# Altium integrated library Cypress USB High-Speed.IntLib: 35 symbols (part 1 of 2)
Pins are listed as number, name and electrical type; pins without a type are passive.

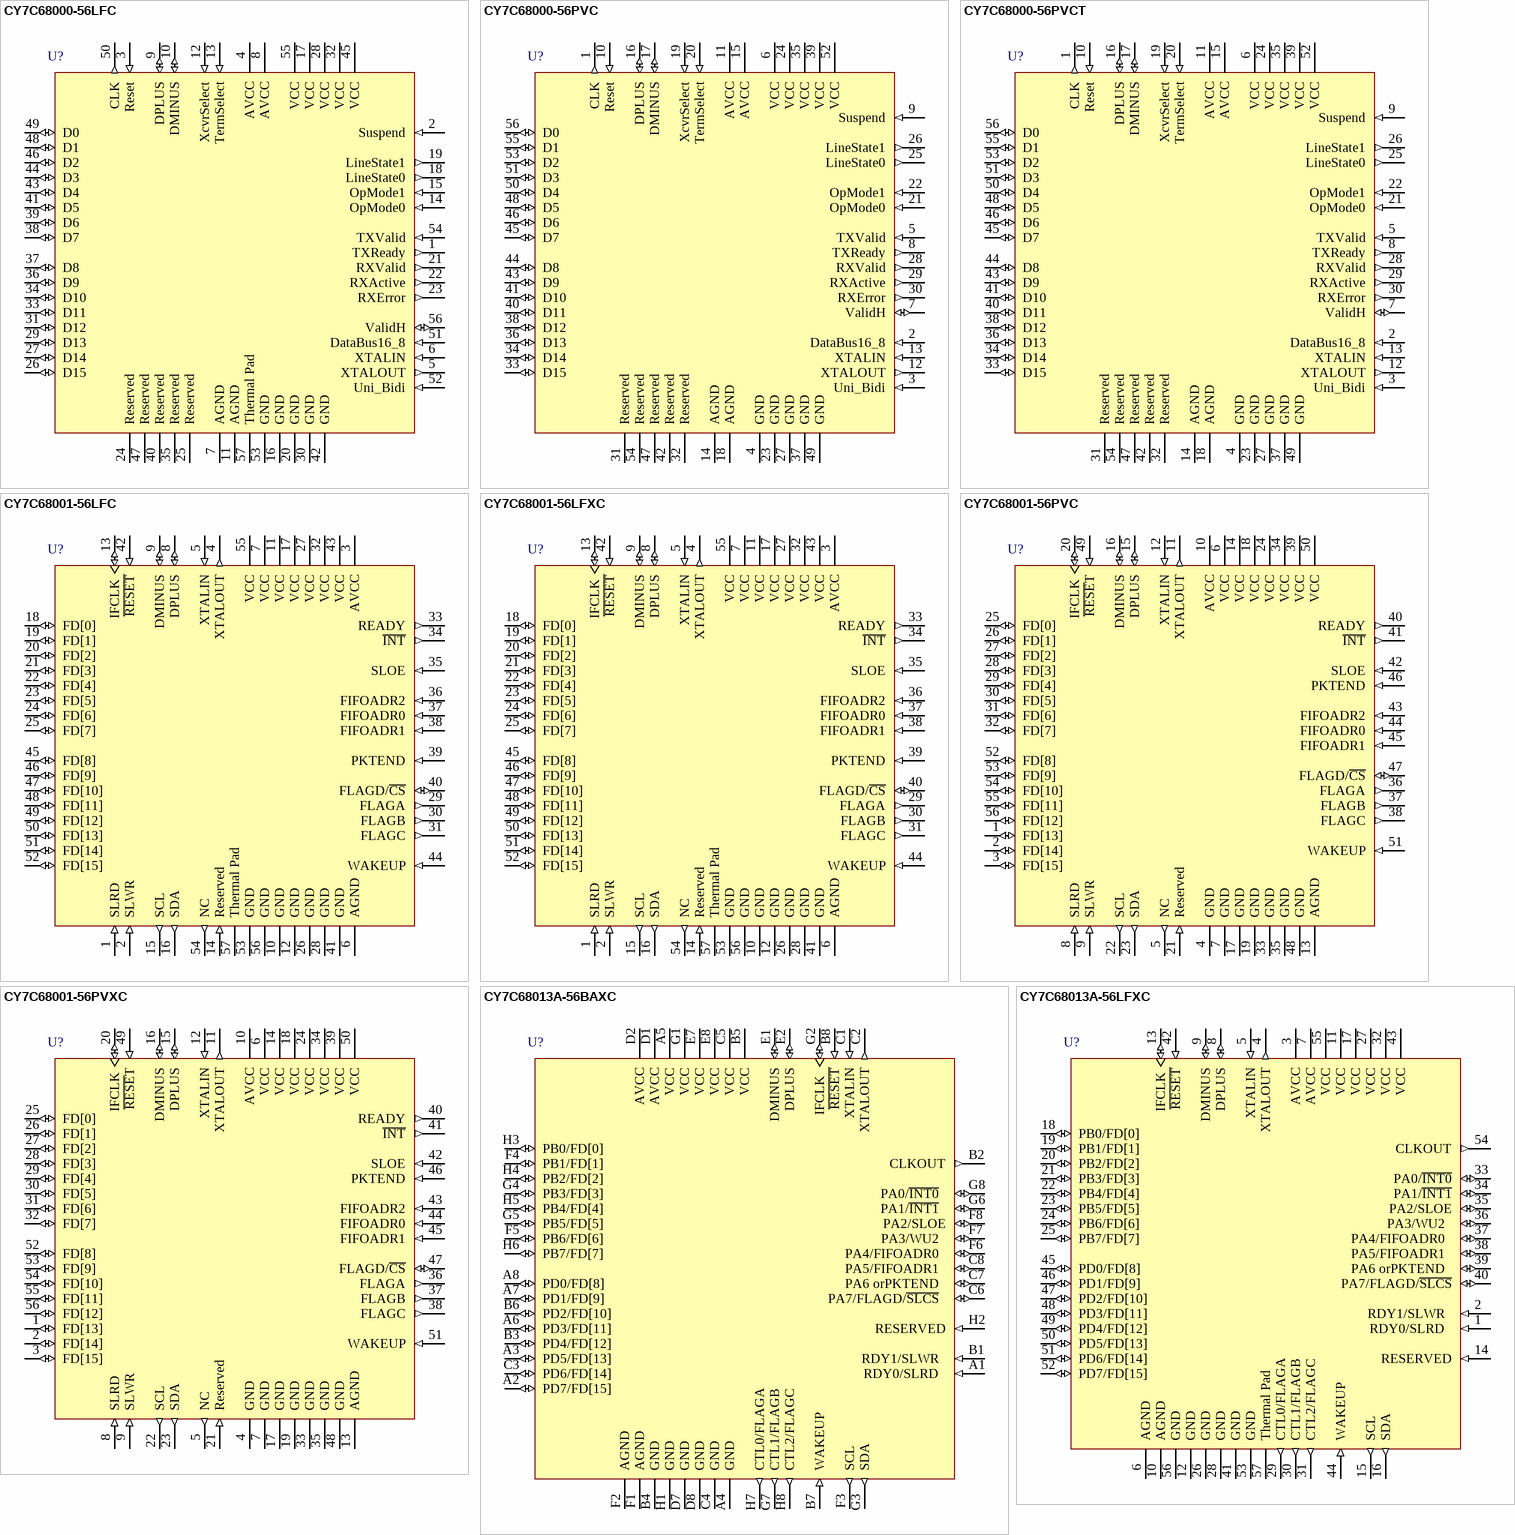
[diagram p0: symbols CY7C68000-56LFC to CY7C68013A-56LFXC]

## CY7C68000-56LFC
designator U?
TX2 USB2.0 Compliant with Transceiver Macrocell Interface Specification, 56-Pin QFN; Published: 16-Dec-2005; LatestRevisionDate: 13-Apr-2006; LatestRevisionNote: IPC-7351 Footprint Added.; DatasheetVersion: rev.G, May-2005; PackageVersion: Feb-2004; PackageReference: LS56B; Publisher: Altium Limited; PackageDescription: 56-Pin Saw Version Quad Flat No-Lead 0.5 mm Pitch; Code_JEDEC: MO-220; ComponentLink1Description: Manufacturer Link; ComponentLink1URL: http://www.cypress.com/portal/server.pt; ComponentLink2Description: Datasheet; ComponentLink2URL: http://www.cypress.com/portal/server.pt/gateway/PTARGS_0_2_1524_209_259_43/http%3B/sjapp20.mis.cypress.com%3B7001/publishedcontent/publish/design_resources/datasheets/contents/cy7c68000_5.pdf
footprint LS56B_N (QFN, 56-Leads, Body 8x8mm, Pitch 0.5mm, IPC Medium Density)
footprint LS56B_L (QFN, 56-Leads, Body 8x8mm, Pitch 0.5mm, IPC High Density)
footprint LS56B_M (QFN, 56-Leads, Body 8x8mm, Pitch 0.5mm, IPC Low Density)
pins: 1 TXReady (out), 2 Suspend (in), 3 Reset (in), 4 AVCC (power), 5 XTALOUT (out), 6 XTALIN (in), 7 AGND (power), 8 AVCC (power), 9 DPLUS (io), 10 DMINUS (io), 11 AGND (power), 12 XcvrSelect (in), 13 TermSelect (in), 14 OpMode0 (in), 15 OpMode1 (in), 16 GND (power), 17 VCC (power), 18 LineState0 (out), 19 LineState1 (out), 20 GND (power), 21 RXValid (out), 22 RXActive (out), 23 RXError (out), 24 Reserved, 25 Reserved, 26 D15 (io), 27 D14 (io), 28 VCC (power), 29 D13 (io), 30 GND (power), 31 D12 (io), 32 VCC (power), 33 D11 (io), 34 D10 (io), 35 Reserved, 36 D9 (io), 37 D8 (io), 38 D7 (io), 39 D6 (io), 40 Reserved, 41 D5 (io), 42 GND (power), 43 D4 (io), 44 D3 (io), 45 VCC (power), 46 D2 (io), 47 Reserved, 48 D1 (io), 49 D0 (io), 50 CLK (out), 51 DataBus16_8 (in), 52 Uni_Bidi (in), 53 GND (power), 54 TXValid (in), 55 VCC (power), 56 ValidH (io), 57 Thermal Pad (power)

## CY7C68000-56PVC
designator U?
TX2 USB2.0 Compliant with Transceiver Macrocell Interface Specification, 56-Pin SSOP; Published: 16-Dec-2005; DatasheetVersion: rev.G, May-2005; PackageVersion: Feb-2005; PackageReference: O56; Publisher: Altium Limited; PackageDescription: SSOP; 56 Leads; Body Width 7.5 mm; Pitch 0.635 mm; Code_JEDEC: MO-118-AB; Code_IPC: SSO56; ComponentLink1Description: Manufacturer Link; ComponentLink1URL: http://www.cypress.com/portal/server.pt; ComponentLink2Description: Datasheet; ComponentLink2URL: http://www.cypress.com/portal/server.pt/gateway/PTARGS_0_2_1524_209_259_43/http%3B/sjapp20.mis.cypress.com%3B7001/publishedcontent/publish/design_resources/datasheets/contents/cy7c68000_5.pdf
footprint O56 (SSOP; 56 Leads; Body Width 7.5 mm; Pitch 0.635 mm)
pins: 1 CLK (out), 2 DataBus16_8 (in), 3 Uni_Bidi (in), 4 GND (power), 5 TXValid (in), 6 VCC (power), 7 ValidH (io), 8 TXReady (out), 9 Suspend (in), 10 Reset (in), 11 AVCC (power), 12 XTALOUT (out), 13 XTALIN (in), 14 AGND (power), 15 AVCC (power), 16 DPLUS (io), 17 DMINUS (io), 18 AGND (power), 19 XcvrSelect (in), 20 TermSelect (in), 21 OpMode0 (in), 22 OpMode1 (in), 23 GND (power), 24 VCC (power), 25 LineState0 (out), 26 LineState1 (out), 27 GND (power), 28 RXValid (out), 29 RXActive (out), 30 RXError (out), 31 Reserved, 32 Reserved, 33 D15 (io), 34 D14 (io), 35 VCC (power), 36 D13 (io), 37 GND (power), 38 D12 (io), 39 VCC (power), 40 D11 (io), 41 D10 (io), 42 Reserved, 43 D9 (io), 44 D8 (io), 45 D7 (io), 46 D6 (io), 47 Reserved, 48 D5 (io), 49 GND (power), 50 D4 (io), 51 D3 (io), 52 VCC (power), 53 D2 (io), 54 Reserved, 55 D1 (io), 56 D0 (io)

## CY7C68000-56PVCT
designator U?
TX2 USB2.0 Compliant with Transceiver Macrocell Interface Specification, 56-Pin SSOP; Published: 16-Dec-2005; DatasheetVersion: rev.G, May-2005; PackageVersion: Feb-2005; PackageReference: O56; Publisher: Altium Limited; PackageDescription: SSOP; 56 Leads; Body Width 7.5 mm; Pitch 0.635 mm; Code_JEDEC: MO-118-AB; Code_IPC: SSO56; ComponentLink1Description: Manufacturer Link; ComponentLink1URL: http://www.cypress.com/portal/server.pt; ComponentLink2Description: Datasheet; ComponentLink2URL: http://www.cypress.com/portal/server.pt/gateway/PTARGS_0_2_1524_209_259_43/http%3B/sjapp20.mis.cypress.com%3B7001/publishedcontent/publish/design_resources/datasheets/contents/cy7c68000_5.pdf
footprint O56 (SSOP; 56 Leads; Body Width 7.5 mm; Pitch 0.635 mm)
pins: 1 CLK (out), 2 DataBus16_8 (in), 3 Uni_Bidi (in), 4 GND (power), 5 TXValid (in), 6 VCC (power), 7 ValidH (io), 8 TXReady (out), 9 Suspend (in), 10 Reset (in), 11 AVCC (power), 12 XTALOUT (out), 13 XTALIN (in), 14 AGND (power), 15 AVCC (power), 16 DPLUS (io), 17 DMINUS (io), 18 AGND (power), 19 XcvrSelect (in), 20 TermSelect (in), 21 OpMode0 (in), 22 OpMode1 (in), 23 GND (power), 24 VCC (power), 25 LineState0 (out), 26 LineState1 (out), 27 GND (power), 28 RXValid (out), 29 RXActive (out), 30 RXError (out), 31 Reserved, 32 Reserved, 33 D15 (io), 34 D14 (io), 35 VCC (power), 36 D13 (io), 37 GND (power), 38 D12 (io), 39 VCC (power), 40 D11 (io), 41 D10 (io), 42 Reserved, 43 D9 (io), 44 D8 (io), 45 D7 (io), 46 D6 (io), 47 Reserved, 48 D5 (io), 49 GND (power), 50 D4 (io), 51 D3 (io), 52 VCC (power), 53 D2 (io), 54 Reserved, 55 D1 (io), 56 D0 (io)

## CY7C68001-56LFC
designator U?
EZ-USB SX2 High-Speed USB Interface Device, 56-Pin QFN; Published: 16-Dec-2005; LatestRevisionDate: 13-Apr-2006; LatestRevisionNote: IPC-7351 Footprint Added.; DatasheetVersion: rev.G, Aug-2005; PackageVersion: May-2003; PackageReference: LF56A; Publisher: Altium Limited; PackageDescription: 56-Pin Punch Version Quad Flat No-Lead 0.5 mm Pitch; Code_JEDEC: MO-220; ComponentLink1Description: Manufacturer Link; ComponentLink1URL: http://www.cypress.com/portal/server.pt; ComponentLink2Description: Datasheet; ComponentLink2URL: http://www.cypress.com/portal/server.pt/gateway/PTARGS_0_2_1524_209_259_43/http%3B/sjapp20.mis.cypress.com%3B7001/publishedcontent/publish/design_resources/datasheets/contents/cy7c68001_5.pdf
footprint LF56A_N (QFN, 56-Leads, Body 8x8mm, Pitch 0.5mm, IPC Medium Density)
footprint LF56A_L (QFN, 56-Leads, Body 8x8mm, Pitch 0.5mm, IPC High Density)
footprint LF56A_M (QFN, 56-Leads, Body 8x8mm, Pitch 0.5mm, IPC Low Density)
pins: 1 SLRD (in), 2 SLWR (in), 3 AVCC (power), 4 XTALOUT (out), 5 XTALIN (in), 6 AGND (power), 7 VCC (power), 8 DPLUS (io), 9 DMINUS (io), 10 GND (power), 11 VCC (power), 12 GND (power), 13 IFCLK (io), 14 Reserved (in), 15 SCL (out), 16 SDA (out), 17 VCC (power), 18 FD[0] (io), 19 FD[1] (io), 20 FD[2] (io), 21 FD[3] (io), 22 FD[4] (io), 23 FD[5] (io), 24 FD[6] (io), 25 FD[7] (io), 26 GND (power), 27 VCC (power), 28 GND (power), 29 FLAGA (out), 30 FLAGB (out), 31 FLAGC (out), 32 VCC (power), 33 READY (out), 34 ~{INT} (out), 35 SLOE (in), 36 FIFOADR2 (in), 37 FIFOADR0 (in), 38 FIFOADR1 (in), 39 PKTEND (in), 40 FLAGD/~{CS} (io), 41 GND (power), 42 ~{RESET} (in), 43 VCC (power), 44 WAKEUP (in), 45 FD[8] (io), 46 FD[9] (io), 47 FD[10] (io), 48 FD[11] (io), 49 FD[12] (io), 50 FD[13] (io), 51 FD[14] (io), 52 FD[15] (io), 53 GND (power), 54 NC (out), 55 VCC (power), 56 GND (power), 57 Thermal Pad (power)

## CY7C68001-56LFXC
designator U?
EZ-USB SX2 High-Speed USB Interface Device, 56-Pin QFN, Pb-Free; Published: 16-Dec-2005; LatestRevisionDate: 13-Apr-2006; LatestRevisionNote: IPC-7351 Footprint Added.; DatasheetVersion: rev.G, Aug-2005; PackageVersion: May-2003; PackageReference: LF56A; Publisher: Altium Limited; PackageDescription: 56-Pin Punch Version Quad Flat No-Lead 0.5 mm Pitch; Code_JEDEC: MO-220; ComponentLink1Description: Manufacturer Link; ComponentLink1URL: http://www.cypress.com/portal/server.pt; ComponentLink2Description: Datasheet; ComponentLink2URL: http://www.cypress.com/portal/server.pt/gateway/PTARGS_0_2_1524_209_259_43/http%3B/sjapp20.mis.cypress.com%3B7001/publishedcontent/publish/design_resources/datasheets/contents/cy7c68001_5.pdf
footprint LF56A_N (QFN, 56-Leads, Body 8x8mm, Pitch 0.5mm, IPC Medium Density)
footprint LF56A_L (QFN, 56-Leads, Body 8x8mm, Pitch 0.5mm, IPC High Density)
footprint LF56A_M (QFN, 56-Leads, Body 8x8mm, Pitch 0.5mm, IPC Low Density)
pins: 1 SLRD (in), 2 SLWR (in), 3 AVCC (power), 4 XTALOUT (out), 5 XTALIN (in), 6 AGND (power), 7 VCC (power), 8 DPLUS (io), 9 DMINUS (io), 10 GND (power), 11 VCC (power), 12 GND (power), 13 IFCLK (io), 14 Reserved (in), 15 SCL (out), 16 SDA (out), 17 VCC (power), 18 FD[0] (io), 19 FD[1] (io), 20 FD[2] (io), 21 FD[3] (io), 22 FD[4] (io), 23 FD[5] (io), 24 FD[6] (io), 25 FD[7] (io), 26 GND (power), 27 VCC (power), 28 GND (power), 29 FLAGA (out), 30 FLAGB (out), 31 FLAGC (out), 32 VCC (power), 33 READY (out), 34 ~{INT} (out), 35 SLOE (in), 36 FIFOADR2 (in), 37 FIFOADR0 (in), 38 FIFOADR1 (in), 39 PKTEND (in), 40 FLAGD/~{CS} (io), 41 GND (power), 42 ~{RESET} (in), 43 VCC (power), 44 WAKEUP (in), 45 FD[8] (io), 46 FD[9] (io), 47 FD[10] (io), 48 FD[11] (io), 49 FD[12] (io), 50 FD[13] (io), 51 FD[14] (io), 52 FD[15] (io), 53 GND (power), 54 NC (out), 55 VCC (power), 56 GND (power), 57 Thermal Pad (power)

## CY7C68001-56PVC
designator U?
EZ-USB SX2 High-Speed USB Interface Device, 56-Pin SSOP; Published: 16-Dec-2005; DatasheetVersion: rev.G, Aug-2005; PackageVersion: Feb-2005; PackageReference: O56; Publisher: Altium Limited; PackageDescription: SSOP; 56 Leads; Body Width 7.5 mm; Pitch 0.635 mm; Code_JEDEC: MO-118-AB; Code_IPC: SSO56; ComponentLink1Description: Manufacturer Link; ComponentLink1URL: http://www.cypress.com/portal/server.pt; ComponentLink2Description: Datasheet; ComponentLink2URL: http://www.cypress.com/portal/server.pt/gateway/PTARGS_0_2_1524_209_259_43/http%3B/sjapp20.mis.cypress.com%3B7001/publishedcontent/publish/design_resources/datasheets/contents/cy7c68001_5.pdf
footprint O56 (SSOP; 56 Leads; Body Width 7.5 mm; Pitch 0.635 mm)
pins: 1 FD[13] (io), 2 FD[14] (io), 3 FD[15] (io), 4 GND (power), 5 NC (out), 6 VCC (power), 7 GND (power), 8 SLRD (in), 9 SLWR (in), 10 AVCC (power), 11 XTALOUT (out), 12 XTALIN (in), 13 AGND (power), 14 VCC (power), 15 DPLUS (io), 16 DMINUS (io), 17 GND (power), 18 VCC (power), 19 GND (power), 20 IFCLK (io), 21 Reserved (in), 22 SCL (out), 23 SDA (out), 24 VCC (power), 25 FD[0] (io), 26 FD[1] (io), 27 FD[2] (io), 28 FD[3] (io), 29 FD[4] (io), 30 FD[5] (io), 31 FD[6] (io), 32 FD[7] (io), 33 GND (power), 34 VCC (power), 35 GND (power), 36 FLAGA (out), 37 FLAGB (out), 38 FLAGC (out), 39 VCC (power), 40 READY (out), 41 ~{INT} (out), 42 SLOE (in), 43 FIFOADR2 (in), 44 FIFOADR0 (in), 45 FIFOADR1 (in), 46 PKTEND (in), 47 FLAGD/~{CS} (io), 48 GND (power), 49 ~{RESE}T (in), 50 VCC (power), 51 WAKEUP (in), 52 FD[8] (io), 53 FD[9] (io), 54 FD[10] (io), 55 FD[11] (io), 56 FD[12] (io)

## CY7C68001-56PVXC
designator U?
EZ-USB SX2 High-Speed USB Interface Device, 56-Pin SSOP, Pb-Free; Published: 16-Dec-2005; DatasheetVersion: rev.G, Aug-2005; PackageVersion: Feb-2005; PackageReference: O56; Publisher: Altium Limited; PackageDescription: SSOP; 56 Leads; Body Width 7.5 mm; Pitch 0.635 mm; Code_JEDEC: MO-118-AB; Code_IPC: SSO56; ComponentLink1Description: Manufacturer Link; ComponentLink1URL: http://www.cypress.com/portal/server.pt; ComponentLink2Description: Datasheet; ComponentLink2URL: http://www.cypress.com/portal/server.pt/gateway/PTARGS_0_2_1524_209_259_43/http%3B/sjapp20.mis.cypress.com%3B7001/publishedcontent/publish/design_resources/datasheets/contents/cy7c68001_5.pdf
footprint O56 (SSOP; 56 Leads; Body Width 7.5 mm; Pitch 0.635 mm)
pins: 1 FD[13] (io), 2 FD[14] (io), 3 FD[15] (io), 4 GND (power), 5 NC (out), 6 VCC (power), 7 GND (power), 8 SLRD (in), 9 SLWR (in), 10 AVCC (power), 11 XTALOUT (out), 12 XTALIN (in), 13 AGND (power), 14 VCC (power), 15 DPLUS (io), 16 DMINUS (io), 17 GND (power), 18 VCC (power), 19 GND (power), 20 IFCLK (io), 21 Reserved (in), 22 SCL (out), 23 SDA (out), 24 VCC (power), 25 FD[0] (io), 26 FD[1] (io), 27 FD[2] (io), 28 FD[3] (io), 29 FD[4] (io), 30 FD[5] (io), 31 FD[6] (io), 32 FD[7] (io), 33 GND (power), 34 VCC (power), 35 GND (power), 36 FLAGA (out), 37 FLAGB (out), 38 FLAGC (out), 39 VCC (power), 40 READY (out), 41 ~{INT} (out), 42 SLOE (in), 43 FIFOADR2 (in), 44 FIFOADR0 (in), 45 FIFOADR1 (in), 46 PKTEND (in), 47 FLAGD/~{CS} (io), 48 GND (power), 49 ~{RESE}T (in), 50 VCC (power), 51 WAKEUP (in), 52 FD[8] (io), 53 FD[9] (io), 54 FD[10] (io), 55 FD[11] (io), 56 FD[12] (io)

## CY7C68013A-56BAXC
designator U?
EZ-USB FX2LP USB Microcontroller Ideal for Non-Battery Powered Applications,16K RAM, 24 I/Os, 56-Pin VFBGA, Pb-Free, Commercial Grade; Published: 16-Dec-2005; LatestRevisionDate: 13-Apr-2006; LatestRevisionNote: IPC-7351 Footprint Added.; DatasheetVersion: rev.J, Sep-2005; PackageVersion: Sep-2005; PackageReference: BZ56; Publisher: Altium Limited; PackageDescription: 56-Ball VF Ball Grid Array 0.5 mm Pitch; Code_JEDEC: MO-195C; ComponentLink1Description: Manufacturer Link; ComponentLink1URL: http://www.cypress.com/portal/server.pt; ComponentLink2Description: Datasheet; ComponentLink2URL: http://www.cypress.com/portal/server.pt/gateway/PTARGS_0_2_1524_209_259_43/http%3B/sjapp20.mis.cypress.com%3B7001/publishedcontent/publish/design_resources/datasheets/contents/cy7c68013a_5.pdf
footprint BZ56 (BGA, 56-Leads, Body 5x5mm, Pitch 0.5mm)
pins: A1  RDY0/SLRD   (in), A2 PD7/FD[15]   (io) "Port D", A3 PD5/FD[13]   (io) "Port D", A4 GND (power), A5 VCC (power), A6 PD3/FD[11]   (io) "Port D", A7 PD1/FD[9]   (io) "Port D", A8 PD0/FD[8]   (io) "Port D", B1  RDY1/SLWR   (in), B2 CLKOUT (out), B3 PD4/FD[12]   (io) "Port D", B4 GND (power), B5 VCC (power), B6 PD2/FD[10]   (io) "Port D", B7 WAKEUP (in), B8 ~{RESET} (in), C1 XTALIN (in), C2 XTALOUT (out), C3 PD6/FD[14]   (io) "Port D", C4 GND (power), C5 VCC (power), C6 PA7/FLAGD/~{SLCS}   (io) "Port A", C7 PA6 orPKTEND   (io) "Port A", C8 PA5/FIFOADR1   (io) "Port A", D1 AVCC (power), D2 AVCC (power), D7 GND (power), D8 GND (power), E1 DMINUS (io), E2 DPLUS (io), E7 VCC (power), E8 VCC (power), F1 AGND (power), F2 AGND (power), F3 SCL (out), F4 PB1/FD[1]   (io) "Port B", F5 PB6/FD[6]   (io) "Port B", F6 PA4/FIFOADR0   (io) "Port A", F7 PA3/WU2   (io) "Port A", F8 PA2/SLOE (io) "Port A", G1 VCC (power), G2  IFCLK  (io), G3 SDA (out), G4 PB3/FD[3]   (io) "Port B", G5 PB5/FD[5]   (io) "Port B", G6 PA1/~{INT1}   (io) "Port A", G7 CTL1/FLAGB   (out), G8 PA0/~{INT0}   (io) "Port A", H1 GND (power), H2 RESERVED (in), H3 PB0/FD[0]   (io) "Port B", H4 PB2/FD[2]   (io) "Port B", H5 PB4/FD[4]   (io) "Port B", H6 PB7/FD[7]   (io) "Port B", H7 CTL0/FLAGA   (out), H8 CTL2/FLAGC   (out)

## CY7C68013A-56LFXC
designator U?
EZ-USB FX2LP USB Microcontroller Ideal for Non-Battery Powered Applications,16K RAM, 24 I/Os, 56-Pin QFN, Pb-Free, Commercial Grade; Published: 16-Dec-2005; LatestRevisionDate: 13-Apr-2006; LatestRevisionNote: IPC-7351 Footprint Added.; DatasheetVersion: rev.J, Sep-2005; PackageVersion: May-2003; PackageReference: LF56A; Publisher: Altium Limited; PackageDescription: 56-Pin Punch Version Quad Flat No-Lead 0.5 mm Pitch; Code_JEDEC: MO-220; ComponentLink1Description: Manufacturer Link; ComponentLink1URL: http://www.cypress.com/portal/server.pt; ComponentLink2Description: Datasheet; ComponentLink2URL: http://www.cypress.com/portal/server.pt/gateway/PTARGS_0_2_1524_209_259_43/http%3B/sjapp20.mis.cypress.com%3B7001/publishedcontent/publish/design_resources/datasheets/contents/cy7c68013a_5.pdf
footprint LF56A_N (QFN, 56-Leads, Body 8x8mm, Pitch 0.5mm, IPC Medium Density)
footprint LF56A_L (QFN, 56-Leads, Body 8x8mm, Pitch 0.5mm, IPC High Density)
footprint LF56A_M (QFN, 56-Leads, Body 8x8mm, Pitch 0.5mm, IPC Low Density)
pins: 1  RDY0/SLRD   (in), 2  RDY1/SLWR   (in), 3 AVCC (power), 4 XTALOUT (out), 5 XTALIN (in), 6 AGND (power), 7 AVCC (power), 8 DPLUS (io), 9 DMINUS (io), 10 AGND (power), 11 VCC (power), 12 GND (power), 13  IFCLK (io), 14 RESERVED (in), 15 SCL (out), 16 SDA (out), 17 VCC (power), 18 PB0/FD[0]   (io) "Port B", 19 PB1/FD[1]   (io) "Port B", 20 PB2/FD[2]   (io) "Port B", 21 PB3/FD[3]   (io) "Port B", 22 PB4/FD[4]   (io) "Port B", 23 PB5/FD[5]   (io) "Port B", 24 PB6/FD[6]   (io) "Port B", 25 PB7/FD[7]   (io) "Port B", 26 GND (power), 27 VCC (power), 28 GND (power), 29 CTL0/FLAGA   (out), 30 CTL1/FLAGB   (out), 31 CTL2/FLAGC   (out), 32 VCC (power), 33 PA0/~{INT0} (io) "Port A", 34 PA1/~{INT1} (io) "Port A", 35 PA2/SLOE (io) "Port A", 36 PA3/WU2   (io) "Port A", 37 PA4/FIFOADR0   (io) "Port A", 38 PA5/FIFOADR1   (io) "Port A", 39 PA6 orPKTEND   (io) "Port A", 40 PA7/FLAGD/~{SLCS} (io) "Port A", 41 GND (power), 42 ~{RESET} (in), 43 VCC (power), 44 WAKEUP (in), 45 PD0/FD[8]   (io) "Port D", 46 PD1/FD[9]   (io) "Port D", 47 PD2/FD[10]   (io) "Port D", 48 PD3/FD[11]   (io) "Port D", 49 PD4/FD[12]   (io) "Port D", 50 PD5/FD[13]   (io) "Port D", 51 PD6/FD[14]   (io) "Port D", 52 PD7/FD[15]   (io) "Port D", 53 GND (power), 54 CLKOUT (out), 55 VCC (power), 56 GND (power), 57 Thermal Pad (power)

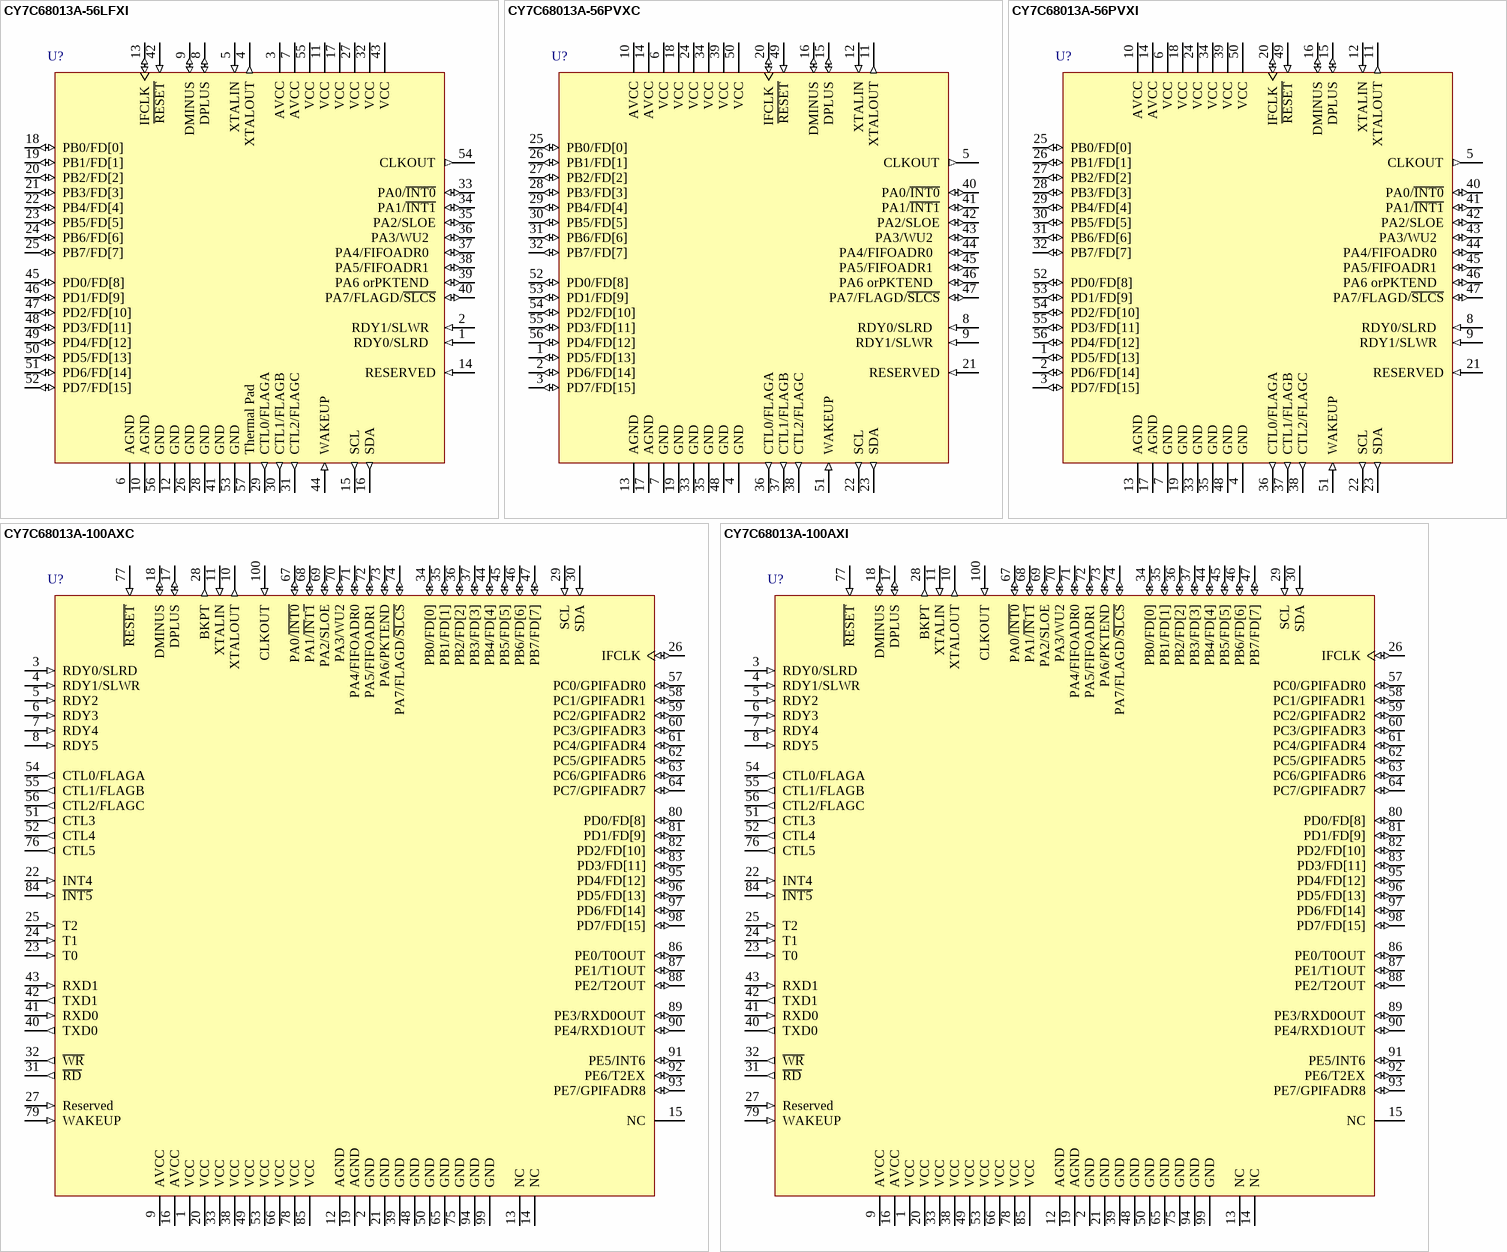
[diagram p1: symbols CY7C68013A-56LFXI to CY7C68013A-100AXI]

## CY7C68013A-56LFXI
designator U?
EZ-USB FX2LP USB Microcontroller Ideal for Non-Battery Powered Applications,16K RAM, 24 I/Os, 56-Pin QFN, Pb-Free, Industrial Grade; Published: 16-Dec-2005; LatestRevisionDate: 13-Apr-2006; LatestRevisionNote: IPC-7351 Footprint Added.; DatasheetVersion: rev.J, Sep-2005; PackageVersion: May-2003; PackageReference: LF56A; Publisher: Altium Limited; PackageDescription: 56-Pin Punch Version Quad Flat No-Lead 0.5 mm Pitch; Code_JEDEC: MO-220; ComponentLink1Description: Manufacturer Link; ComponentLink1URL: http://www.cypress.com/portal/server.pt; ComponentLink2Description: Datasheet; ComponentLink2URL: http://www.cypress.com/portal/server.pt/gateway/PTARGS_0_2_1524_209_259_43/http%3B/sjapp20.mis.cypress.com%3B7001/publishedcontent/publish/design_resources/datasheets/contents/cy7c68013a_5.pdf
footprint LF56A_N (QFN, 56-Leads, Body 8x8mm, Pitch 0.5mm, IPC Medium Density)
footprint LF56A_L (QFN, 56-Leads, Body 8x8mm, Pitch 0.5mm, IPC High Density)
footprint LF56A_M (QFN, 56-Leads, Body 8x8mm, Pitch 0.5mm, IPC Low Density)
pins: 1  RDY0/SLRD   (in), 2  RDY1/SLWR   (in), 3 AVCC (power), 4 XTALOUT (out), 5 XTALIN (in), 6 AGND (power), 7 AVCC (power), 8 DPLUS (io), 9 DMINUS (io), 10 AGND (power), 11 VCC (power), 12 GND (power), 13  IFCLK (io), 14 RESERVED (in), 15 SCL (out), 16 SDA (out), 17 VCC (power), 18 PB0/FD[0]   (io) "Port B", 19 PB1/FD[1]   (io) "Port B", 20 PB2/FD[2]   (io) "Port B", 21 PB3/FD[3]   (io) "Port B", 22 PB4/FD[4]   (io) "Port B", 23 PB5/FD[5]   (io) "Port B", 24 PB6/FD[6]   (io) "Port B", 25 PB7/FD[7]   (io) "Port B", 26 GND (power), 27 VCC (power), 28 GND (power), 29 CTL0/FLAGA   (out), 30 CTL1/FLAGB   (out), 31 CTL2/FLAGC   (out), 32 VCC (power), 33 PA0/~{INT0} (io) "Port A", 34 PA1/~{INT1} (io) "Port A", 35 PA2/SLOE (io) "Port A", 36 PA3/WU2   (io) "Port A", 37 PA4/FIFOADR0   (io) "Port A", 38 PA5/FIFOADR1   (io) "Port A", 39 PA6 orPKTEND   (io) "Port A", 40 PA7/FLAGD/~{SLCS} (io) "Port A", 41 GND (power), 42 ~{RESET} (in), 43 VCC (power), 44 WAKEUP (in), 45 PD0/FD[8]   (io) "Port D", 46 PD1/FD[9]   (io) "Port D", 47 PD2/FD[10]   (io) "Port D", 48 PD3/FD[11]   (io) "Port D", 49 PD4/FD[12]   (io) "Port D", 50 PD5/FD[13]   (io) "Port D", 51 PD6/FD[14]   (io) "Port D", 52 PD7/FD[15]   (io) "Port D", 53 GND (power), 54 CLKOUT (out), 55 VCC (power), 56 GND (power), 57 Thermal Pad (power)

## CY7C68013A-56PVXC
designator U?
EZ-USB FX2LP USB Microcontroller Ideal for Non-Battery Powered Applications,16K RAM, 24 I/Os, 56-Pin SSOP, Pb-Free, Commercial Grade; Published: 16-Dec-2005; DatasheetVersion: rev.J, Sep-2005; PackageVersion: Feb-2005; PackageReference: O56; Publisher: Altium Limited; PackageDescription: SSOP; 56 Leads; Body Width 7.5 mm; Pitch 0.635 mm; Code_JEDEC: MO-118-AB; Code_IPC: SSO56; ComponentLink1Description: Manufacturer Link; ComponentLink1URL: http://www.cypress.com/portal/server.pt; ComponentLink2Description: Datasheet; ComponentLink2URL: http://www.cypress.com/portal/server.pt/gateway/PTARGS_0_2_1524_209_259_43/http%3B/sjapp20.mis.cypress.com%3B7001/publishedcontent/publish/design_resources/datasheets/contents/cy7c68013a_5.pdf
footprint O56 (SSOP; 56 Leads; Body Width 7.5 mm; Pitch 0.635 mm)
pins: 1 PD5/FD[13]   (io) "Port D", 2 PD6/FD[14]   (io) "Port D", 3 PD7/FD[15]   (io) "Port D", 4 GND (power), 5 CLKOUT (out), 6 VCC (power), 7 GND (power), 8  RDY0/SLRD   (in), 9  RDY1/SLWR   (in), 10 AVCC (power), 11 XTALOUT (out), 12 XTALIN (in), 13 AGND (power), 14 AVCC (power), 15 DPLUS (io), 16 DMINUS (io), 17 AGND (power), 18 VCC (power), 19 GND (power), 20  IFCLK (io), 21 RESERVED (in), 22 SCL (out), 23 SDA (out), 24 VCC (power), 25 PB0/FD[0]   (io) "Port B", 26 PB1/FD[1]   (io) "Port B", 27 PB2/FD[2]   (io) "Port B", 28 PB3/FD[3]   (io) "Port B", 29 PB4/FD[4]   (io) "Port B", 30 PB5/FD[5]   (io) "Port B", 31 PB6/FD[6]   (io) "Port B", 32 PB7/FD[7]   (io) "Port B", 33 GND (power), 34 VCC (power), 35 GND (power), 36 CTL0/FLAGA   (out), 37 CTL1/FLAGB   (out), 38 CTL2/FLAGC   (out), 39 VCC (power), 40 PA0/~{INT0} (io) "Port A", 41 PA1/~{INT1} (io) "Port A", 42 PA2/SLOE (io) "Port A", 43 PA3/WU2   (io) "Port A", 44 PA4/FIFOADR0   (io) "Port A", 45 PA5/FIFOADR1   (io) "Port A", 46 PA6 orPKTEND   (io) "Port A", 47 PA7/FLAGD/~{SLCS} (io) "Port A", 48 GND (power), 49 ~{RESET} (in), 50 VCC (power), 51 WAKEUP (in), 52 PD0/FD[8]   (io) "Port D", 53 PD1/FD[9]   (io) "Port D", 54 PD2/FD[10]   (io) "Port D", 55 PD3/FD[11]   (io) "Port D", 56 PD4/FD[12]   (io) "Port D"

## CY7C68013A-56PVXI
designator U?
EZ-USB FX2LP USB Microcontroller Ideal for Non-Battery Powered Applications,16K RAM, 24 I/Os, 56-Pin SSOP, Pb-Free, Industrial Grade; Published: 16-Dec-2005; DatasheetVersion: rev.J, Sep-2005; PackageVersion: Feb-2005; PackageReference: O56; Publisher: Altium Limited; PackageDescription: SSOP; 56 Leads; Body Width 7.5 mm; Pitch 0.635 mm; Code_JEDEC: MO-118-AB; Code_IPC: SSO56; ComponentLink1Description: Manufacturer Link; ComponentLink1URL: http://www.cypress.com/portal/server.pt; ComponentLink2Description: Datasheet; ComponentLink2URL: http://www.cypress.com/portal/server.pt/gateway/PTARGS_0_2_1524_209_259_43/http%3B/sjapp20.mis.cypress.com%3B7001/publishedcontent/publish/design_resources/datasheets/contents/cy7c68013a_5.pdf
footprint O56 (SSOP; 56 Leads; Body Width 7.5 mm; Pitch 0.635 mm)
pins: 1 PD5/FD[13]   (io) "Port D", 2 PD6/FD[14]   (io) "Port D", 3 PD7/FD[15]   (io) "Port D", 4 GND (power), 5 CLKOUT (out), 6 VCC (power), 7 GND (power), 8  RDY0/SLRD   (in), 9  RDY1/SLWR   (in), 10 AVCC (power), 11 XTALOUT (out), 12 XTALIN (in), 13 AGND (power), 14 AVCC (power), 15 DPLUS (io), 16 DMINUS (io), 17 AGND (power), 18 VCC (power), 19 GND (power), 20  IFCLK (io), 21 RESERVED (in), 22 SCL (out), 23 SDA (out), 24 VCC (power), 25 PB0/FD[0]   (io) "Port B", 26 PB1/FD[1]   (io) "Port B", 27 PB2/FD[2]   (io) "Port B", 28 PB3/FD[3]   (io) "Port B", 29 PB4/FD[4]   (io) "Port B", 30 PB5/FD[5]   (io) "Port B", 31 PB6/FD[6]   (io) "Port B", 32 PB7/FD[7]   (io) "Port B", 33 GND (power), 34 VCC (power), 35 GND (power), 36 CTL0/FLAGA   (out), 37 CTL1/FLAGB   (out), 38 CTL2/FLAGC   (out), 39 VCC (power), 40 PA0/~{INT0} (io) "Port A", 41 PA1/~{INT1} (io) "Port A", 42 PA2/SLOE (io) "Port A", 43 PA3/WU2   (io) "Port A", 44 PA4/FIFOADR0   (io) "Port A", 45 PA5/FIFOADR1   (io) "Port A", 46 PA6 orPKTEND   (io) "Port A", 47 PA7/FLAGD/~{SLCS} (io) "Port A", 48 GND (power), 49 ~{RESET} (in), 50 VCC (power), 51 WAKEUP (in), 52 PD0/FD[8]   (io) "Port D", 53 PD1/FD[9]   (io) "Port D", 54 PD2/FD[10]   (io) "Port D", 55 PD3/FD[11]   (io) "Port D", 56 PD4/FD[12]   (io) "Port D"

## CY7C68013A-100AXC
designator U?
EZ-USB FX2LP USB Microcontroller Ideal for Non-Battery Powered Applications,16K RAM, 40 I/Os, 100-Pin TQFP, Pb-Free, Commercial Grade; Published: 16-Dec-2005; LatestRevisionDate: 13-Apr-2006; LatestRevisionNote: IPC-7351 Footprint Added.; DatasheetVersion: rev.J, Sep-2005; PackageVersion: Feb-2005; PackageReference: A101; Publisher: Altium Limited; PackageDescription: 100-Pin Thin Plastic Quad Flat Pack Rectangular 0.65 mm Pitch; ComponentLink1Description: Manufacturer Link; ComponentLink1URL: http://www.cypress.com/portal/server.pt; ComponentLink2Description: Datasheet; ComponentLink2URL: http://www.cypress.com/portal/server.pt/gateway/PTARGS_0_2_1524_209_259_43/http%3B/sjapp20.mis.cypress.com%3B7001/publishedcontent/publish/design_resources/datasheets/contents/cy7c68013a_5.pdf
footprint A101_N (Thin QFP, 100-Leads, Body 20x14mm, Pitch 0.65mm, IPC Medium Density)
footprint A101_L (Thin QFP, 100-Leads, Body 20x14mm, Pitch 0.65mm, IPC High Density)
footprint A101_M (Thin QFP, 100-Leads, Body 20x14mm, Pitch 0.65mm, IPC Low Density)
pins: 1 VCC (power), 2 GND (power), 3 RDY0/SLRD (in), 4 RDY1/SLWR (in), 5 RDY2 (in), 6 RDY3 (in), 7 RDY4 (in), 8 RDY5 (in), 9 AVCC (power), 10 XTALOUT (out), 11 XTALIN (in), 12 AGND (power), 13 NC, 14 NC, 15 NC, 16 AVCC (power), 17 DPLUS (io), 18 DMINUS (io), 19 AGND (power), 20 VCC (power), 21 GND (power), 22 INT4 (in), 23 T0 (in), 24 T1 (in), 25 T2 (in), 26 IFCLK (io), 27 Reserved (in), 28 BKPT (out), 29 SCL (in), 30 SDA (in), 31 ~{RD} (out), 32 ~{WR} (out), 33 VCC (power), 34 PB0/FD[0] (io) "Port B", 35 PB1/FD[1] (io) "Port B", 36 PB2/FD[2] (io) "Port B", 37 PB3/FD[3] (io) "Port B", 38 VCC (power), 39 GND (power), 40 TXD0 (out), 41 RXD0 (in), 42 TXD1 (out), 43 RXD1 (in), 44 PB4/FD[4] (io) "Port B", 45 PB5/FD[5] (io) "Port B", 46 PB6/FD[6] (io) "Port B", 47 PB7/FD[7] (io) "Port B", 48 GND (power), 49 VCC (power), 50 GND (power), 51 CTL3 (out), 52 CTL4 (out), 53 VCC (power), 54 CTL0/FLAGA (out), 55 CTL1/FLAGB (out), 56 CTL2/FLAGC (out), 57 PC0/GPIFADR0 (io) "Port C", 58 PC1/GPIFADR1 (io) "Port C", 59 PC2/GPIFADR2 (io) "Port C", 60 PC3/GPIFADR3 (io) "Port C", 61 PC4/GPIFADR4 (io) "Port C", 62 PC5/GPIFADR5 (io) "Port C", 63 PC6/GPIFADR6 (io) "Port C", 64 PC7/GPIFADR7 (io) "Port C", 65 GND (power), 66 VCC (power), 67 PA0/~{INT0} (io) "Port A", 68 PA1/~{IN}T~{1} (io) "Port A", 69 PA2/SLOE (io) "Port A", 70 PA3/WU2 (io) "Port A", 71 PA4/FIFOADR0 (io) "Port A", 72 PA5/FIFOADR1 (io) "Port A", 73 PA6/PKTEND (io) "Port A", 74 PA7/FLAGD/~{SLCS} (io) "Port A", 75 GND (power), 76 CTL5 (out), 77 ~{RESET} (in), 78 VCC (power), 79 WAKEUP (in), 80 PD0/FD[8] (io) "Port D", 81 PD1/FD[9] (io) "Port D", 82 PD2/FD[10] (io) "Port D", 83 PD3/FD[11] (io) "Port D", 84 ~{INT5} (in), 85 VCC (power), 86 PE0/T0OUT (io) "Port E", 87 PE1/T1OUT (io) "Port E", 88 PE2/T2OUT (io) "Port E", 89 PE3/RXD0OUT (io) "Port E", 90 PE4/RXD1OUT (io) "Port E", 91 PE5/INT6 (io) "Port E", 92 PE6/T2EX (io) "Port E", 93 PE7/GPIFADR8 (io) "Port E", 94 GND (power), 95 PD4/FD[12] (io) "Port D", 96 PD5/FD[13] (io) "Port D", 97 PD6/FD[14] (io) "Port D", 98 PD7/FD[15] (io) "Port D", 99 GND (power), 100 CLKOUT (in)

## CY7C68013A-100AXI
designator U?
EZ-USB FX2LP USB Microcontroller Ideal for Non-Battery Powered Applications,16K RAM, 40 I/Os, 100-Pin TQFP, Pb-Free, Commercial Grade; Published: 16-Dec-2005; LatestRevisionDate: 13-Apr-2006; LatestRevisionNote: IPC-7351 Footprint Added.; DatasheetVersion: rev.J, Sep-2005; PackageVersion: Feb-2005; PackageReference: A101; Publisher: Altium Limited; PackageDescription: 100-Pin Thin Plastic Quad Flat Pack Rectangular 0.65 mm Pitch; ComponentLink1Description: Manufacturer Link; ComponentLink1URL: http://www.cypress.com/portal/server.pt; ComponentLink2Description: Datasheet; ComponentLink2URL: http://www.cypress.com/portal/server.pt/gateway/PTARGS_0_2_1524_209_259_43/http%3B/sjapp20.mis.cypress.com%3B7001/publishedcontent/publish/design_resources/datasheets/contents/cy7c68013a_5.pdf
footprint A101_N (Thin QFP, 100-Leads, Body 20x14mm, Pitch 0.65mm, IPC Medium Density)
footprint A101_L (Thin QFP, 100-Leads, Body 20x14mm, Pitch 0.65mm, IPC High Density)
footprint A101_M (Thin QFP, 100-Leads, Body 20x14mm, Pitch 0.65mm, IPC Low Density)
pins: 1 VCC (power), 2 GND (power), 3 RDY0/SLRD (in), 4 RDY1/SLWR (in), 5 RDY2 (in), 6 RDY3 (in), 7 RDY4 (in), 8 RDY5 (in), 9 AVCC (power), 10 XTALOUT (out), 11 XTALIN (in), 12 AGND (power), 13 NC, 14 NC, 15 NC, 16 AVCC (power), 17 DPLUS (io), 18 DMINUS (io), 19 AGND (power), 20 VCC (power), 21 GND (power), 22 INT4 (in), 23 T0 (in), 24 T1 (in), 25 T2 (in), 26 IFCLK (io), 27 Reserved (in), 28 BKPT (out), 29 SCL (in), 30 SDA (in), 31 ~{RD} (out), 32 ~{WR} (out), 33 VCC (power), 34 PB0/FD[0] (io) "Port B", 35 PB1/FD[1] (io) "Port B", 36 PB2/FD[2] (io) "Port B", 37 PB3/FD[3] (io) "Port B", 38 VCC (power), 39 GND (power), 40 TXD0 (out), 41 RXD0 (in), 42 TXD1 (out), 43 RXD1 (in), 44 PB4/FD[4] (io) "Port B", 45 PB5/FD[5] (io) "Port B", 46 PB6/FD[6] (io) "Port B", 47 PB7/FD[7] (io) "Port B", 48 GND (power), 49 VCC (power), 50 GND (power), 51 CTL3 (out), 52 CTL4 (out), 53 VCC (power), 54 CTL0/FLAGA (out), 55 CTL1/FLAGB (out), 56 CTL2/FLAGC (out), 57 PC0/GPIFADR0 (io) "Port C", 58 PC1/GPIFADR1 (io) "Port C", 59 PC2/GPIFADR2 (io) "Port C", 60 PC3/GPIFADR3 (io) "Port C", 61 PC4/GPIFADR4 (io) "Port C", 62 PC5/GPIFADR5 (io) "Port C", 63 PC6/GPIFADR6 (io) "Port C", 64 PC7/GPIFADR7 (io) "Port C", 65 GND (power), 66 VCC (power), 67 PA0/~{INT0} (io) "Port A", 68 PA1/~{IN}T~{1} (io) "Port A", 69 PA2/SLOE (io) "Port A", 70 PA3/WU2 (io) "Port A", 71 PA4/FIFOADR0 (io) "Port A", 72 PA5/FIFOADR1 (io) "Port A", 73 PA6/PKTEND (io) "Port A", 74 PA7/FLAGD/~{SLCS} (io) "Port A", 75 GND (power), 76 CTL5 (out), 77 ~{RESET} (in), 78 VCC (power), 79 WAKEUP (in), 80 PD0/FD[8] (io) "Port D", 81 PD1/FD[9] (io) "Port D", 82 PD2/FD[10] (io) "Port D", 83 PD3/FD[11] (io) "Port D", 84 ~{INT5} (in), 85 VCC (power), 86 PE0/T0OUT (io) "Port E", 87 PE1/T1OUT (io) "Port E", 88 PE2/T2OUT (io) "Port E", 89 PE3/RXD0OUT (io) "Port E", 90 PE4/RXD1OUT (io) "Port E", 91 PE5/INT6 (io) "Port E", 92 PE6/T2EX (io) "Port E", 93 PE7/GPIFADR8 (io) "Port E", 94 GND (power), 95 PD4/FD[12] (io) "Port D", 96 PD5/FD[13] (io) "Port D", 97 PD6/FD[14] (io) "Port D", 98 PD7/FD[15] (io) "Port D", 99 GND (power), 100 CLKOUT (in)

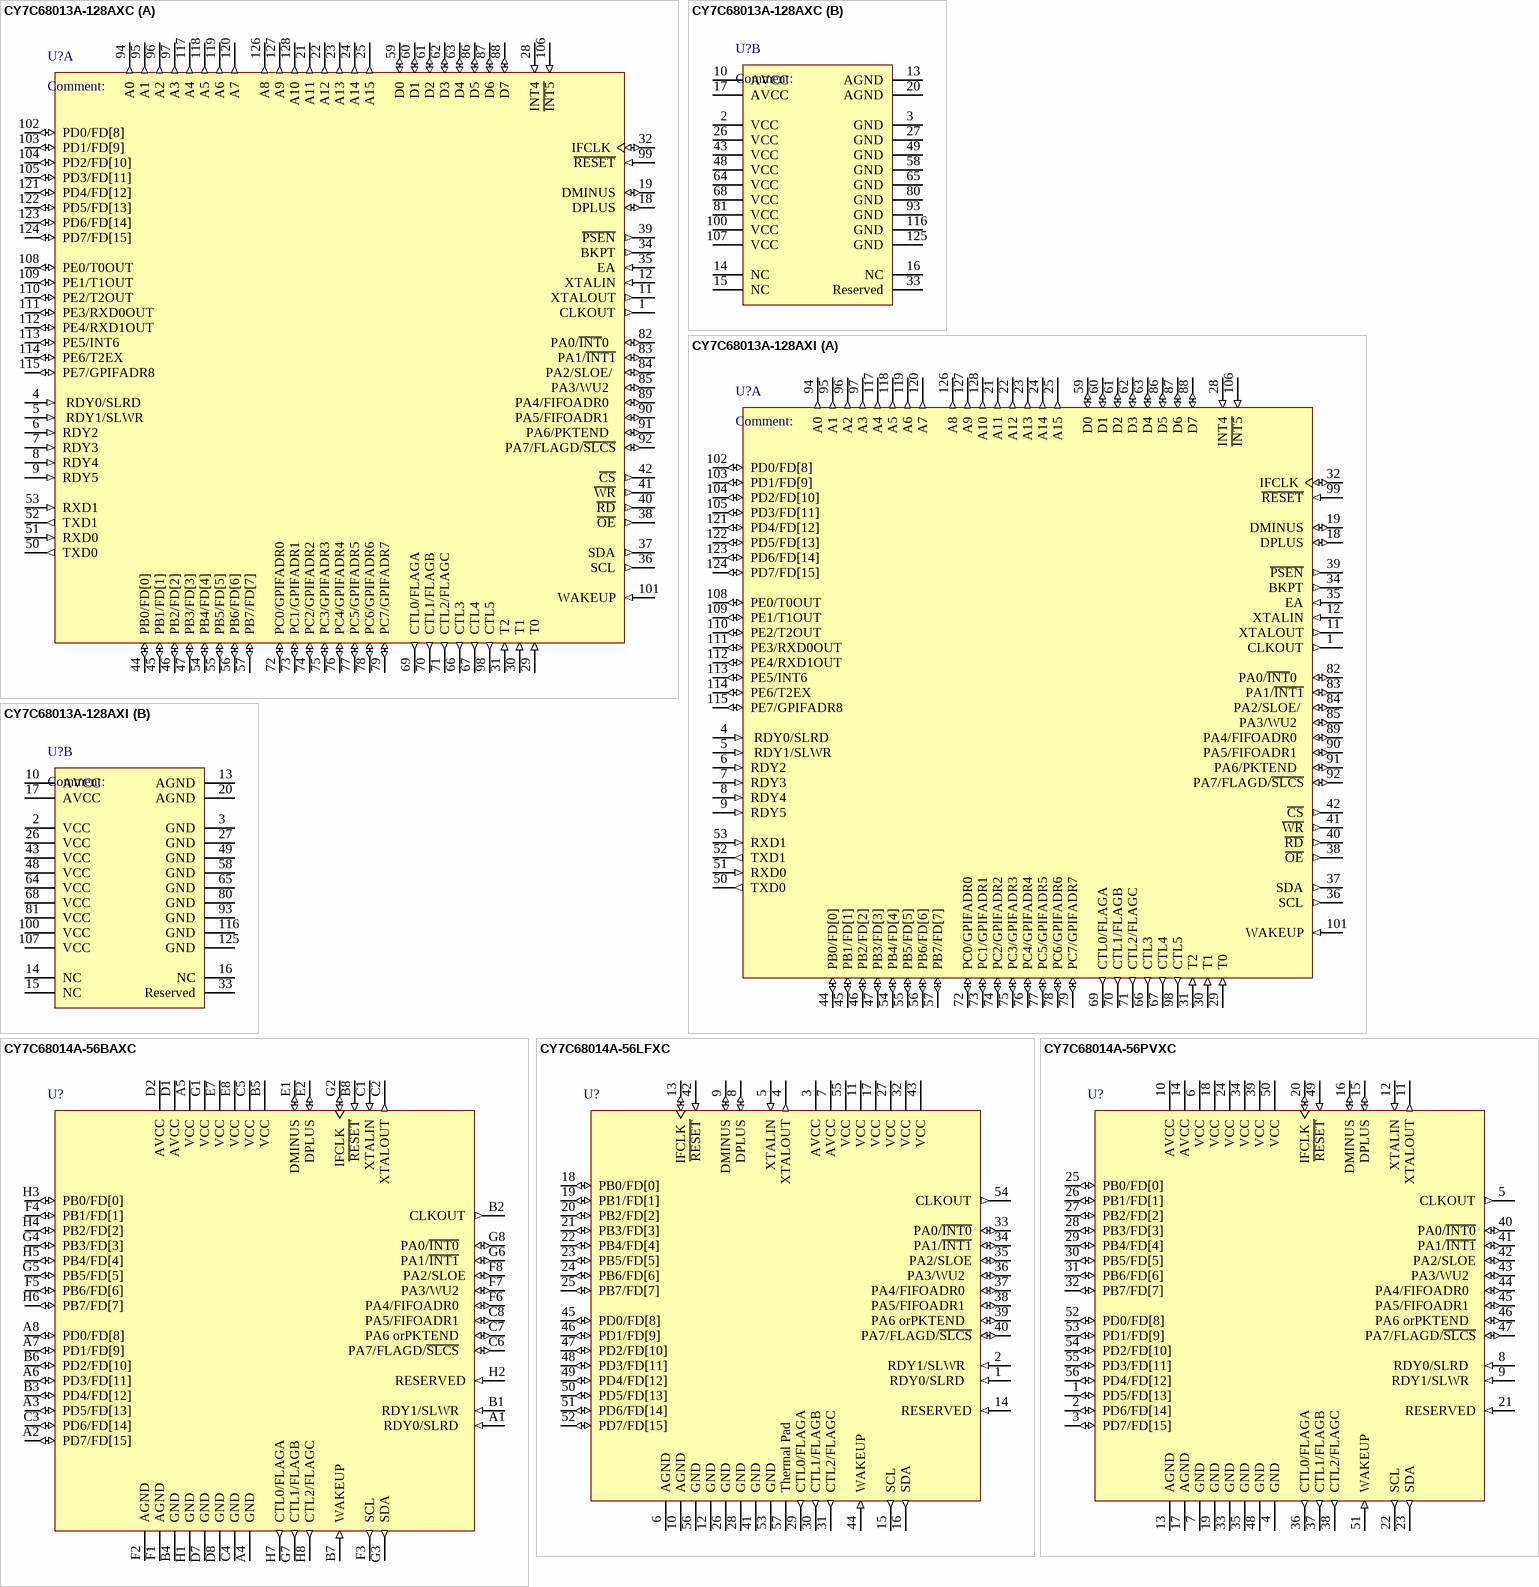
[diagram p2: symbols CY7C68013A-128AXC to CY7C68014A-56PVXC]

## CY7C68013A-128AXC
designator U?
EZ-USB FX2LP USB Microcontroller Ideal for Non-Battery Powered Applications,16K RAM, 40 I/Os, 128-Pin TQFP, Pb-Free, Commercial Grade; Published: 16-Dec-2005; LatestRevisionDate: 30-Jun-2006; LatestRevisionNote: Pins 41 & 42 re-arranged.; DatasheetVersion: rev.J, Sep-2005; PackageVersion: Rev. *C, 19-Dec-2002; PackageReference: A128; Publisher: Altium Limited; PackageDescription: 128-Pin Thin Quad Flat Pack Rectangular 0.5 mm Pitch; ComponentLink1Description: Manufacturer Link; ComponentLink1URL: http://www.cypress.com/portal/server.pt; ComponentLink2Description: Datasheet; ComponentLink2URL: http://www.cypress.com/portal/server.pt/gateway/PTARGS_0_2_1524_209_259_43/http%3B/sjapp20.mis.cypress.com%3B7001/publishedcontent/publish/design_resources/datasheets/contents/cy7c68013a_5.pdf
footprint A128_N (Thin QFP, 128-Leads, Body 20x14 mm, Pitch 0.5mm, IPC Medium Density)
footprint A128_L (Thin QFP, 128-Leads, Body 20x14 mm, Pitch 0.5mm, IPC High Density)
footprint A128_M (Thin QFP, 128-Leads, Body 20x14 mm, Pitch 0.5mm, IPC Low Density)
part A pins: 1 CLKOUT (out), 4  RDY0/SLRD   (in), 5  RDY1/SLWR   (in), 6 RDY2 (in), 7 RDY3 (in), 8 RDY4 (in), 9 RDY5 (in), 11 XTALOUT (out), 12 XTALIN (in), 18 DPLUS (io), 19 DMINUS (io), 21 A11 (out), 22 A12 (out), 23 A13 (out), 24 A14 (out), 25 A15 (out), 28 INT4 (in), 29 T0 (in), 30 T1 (in), 31 T2 (in), 32  IFCLK (io), 34 BKPT (out), 35 EA (in), 36 SCL (out), 37 SDA (out), 38 ~{OE} (out), 39 ~{PSEN} (out), 40 ~{RD} (out), 41 ~{WR} (out), 42 ~{CS} (out), 44 PB0/FD[0]   (io), 45 PB1/FD[1]   (io), 46 PB2/FD[2]   (io), 47 PB3/FD[3]   (io), 50 TXD0 (out), 51 RXD0 (in), 52 TXD1 (out), 53 RXD1 (in), 54 PB4/FD[4]   (io), 55 PB5/FD[5]   (io), 56 PB6/FD[6]   (io), 57 PB7/FD[7]   (io), 59 D0 (io), 60 D1 (io), 61 D2 (io), 62 D3 (io), 63 D4 (io), 66 CTL3 (out), 67 CTL4 (out), 69 CTL0/FLAGA   (out), 70 CTL1/FLAGB   (out), 71 CTL2/FLAGC   (out), 72 PC0/GPIFADR0   (io), 73 PC1/GPIFADR1   (io), 74 PC2/GPIFADR2   (io), 75 PC3/GPIFADR3   (io), 76 PC4/GPIFADR4   (io), 77 PC5/GPIFADR5   (io), 78 PC6/GPIFADR6   (io), 79 PC7/GPIFADR7   (io), 82 PA0/~{INT}0   (io), 83 PA1/~{INT1} (io), 84 PA2/SLOE/  (io), 85 PA3/WU2   (io), 86 D5 (io), 87 D6 (io), 88 D7 (io), 89 PA4/FIFOADR0   (io), 90 PA5/FIFOADR1   (io), 91 PA6/PKTEND   (io), 92 PA7/FLAGD/~{SLCS} (io), 94 A0 (out), 95 A1 (out), 96 A2 (out), 97 A3 (out), 98 CTL5 (out), 99 ~{RESET} (in), 101 WAKEUP (in), 102 PD0/FD[8]   (io), 103 PD1/FD[9]   (io), 104 PD2/FD[10]   (io), 105 PD3/FD[11]   (io), 106 ~{INT5} (in), 108 PE0/T0OUT   (io), 109 PE1/T1OUT   (io), 110 PE2/T2OUT   (io), 111 PE3/RXD0OUT   (io), 112 PE4/RXD1OUT   (io), 113 PE5/INT6   (io), 114 PE6/T2EX   (io), 115 PE7/GPIFADR8   (io), 117 A4 (out), 118 A5 (out), 119 A6 (out), 120 A7 (out), 121 PD4/FD[12]   (io), 122 PD5/FD[13]   (io), 123 PD6/FD[14]   (io), 124 PD7/FD[15]   (io), 126 A8 (out), 127 A9 (out), 128 A10 (out)
part B pins: 2 VCC (power), 3 GND (power), 10 AVCC (power), 13 AGND (power), 14 NC, 15 NC, 16 NC, 17 AVCC (power), 20 AGND (power), 26 VCC (power), 27 GND (power), 33 Reserved (power), 43 VCC (power), 48 VCC (power), 49 GND (power), 58 GND (power), 64 VCC (power), 65 GND (power), 68 VCC (power), 80 GND (power), 81 VCC (power), 93 GND (power), 100 VCC (power), 107 VCC (power), 116 GND (power), 125 GND (power)

## CY7C68013A-128AXI
designator U?
EZ-USB FX2LP USB Microcontroller Ideal for Non-Battery Powered Applications,16K RAM, 40 I/Os, 128-Pin TQFP, Pb-Free, Industrial Grade; Published: 16-Dec-2005; LatestRevisionDate: 30-Jun-2006; LatestRevisionNote: Pins 41 & 42 re-arranged.; DatasheetVersion: rev.J, Sep-2005; PackageVersion: Rev. *C, 19-Dec-2002; PackageReference: A128; Publisher: Altium Limited; PackageDescription: 128-Pin Thin Quad Flat Pack Rectangular 0.5 mm Pitch; ComponentLink1Description: Manufacturer Link; ComponentLink1URL: http://www.cypress.com/portal/server.pt; ComponentLink2Description: Datasheet; ComponentLink2URL: http://www.cypress.com/portal/server.pt/gateway/PTARGS_0_2_1524_209_259_43/http%3B/sjapp20.mis.cypress.com%3B7001/publishedcontent/publish/design_resources/datasheets/contents/cy7c68013a_5.pdf
footprint A128_N (Thin QFP, 128-Leads, Body 20x14 mm, Pitch 0.5mm, IPC Medium Density)
footprint A128_L (Thin QFP, 128-Leads, Body 20x14 mm, Pitch 0.5mm, IPC High Density)
footprint A128_M (Thin QFP, 128-Leads, Body 20x14 mm, Pitch 0.5mm, IPC Low Density)
part A pins: 1 CLKOUT (out), 4  RDY0/SLRD   (in), 5  RDY1/SLWR   (in), 6 RDY2 (in), 7 RDY3 (in), 8 RDY4 (in), 9 RDY5 (in), 11 XTALOUT (out), 12 XTALIN (in), 18 DPLUS (io), 19 DMINUS (io), 21 A11 (out), 22 A12 (out), 23 A13 (out), 24 A14 (out), 25 A15 (out), 28 INT4 (in), 29 T0 (in), 30 T1 (in), 31 T2 (in), 32  IFCLK (io), 34 BKPT (out), 35 EA (in), 36 SCL (out), 37 SDA (out), 38 ~{OE} (out), 39 ~{PSEN} (out), 40 ~{RD} (out), 41 ~{WR} (out), 42 ~{CS} (out), 44 PB0/FD[0]   (io), 45 PB1/FD[1]   (io), 46 PB2/FD[2]   (io), 47 PB3/FD[3]   (io), 50 TXD0 (out), 51 RXD0 (in), 52 TXD1 (out), 53 RXD1 (in), 54 PB4/FD[4]   (io), 55 PB5/FD[5]   (io), 56 PB6/FD[6]   (io), 57 PB7/FD[7]   (io), 59 D0 (io), 60 D1 (io), 61 D2 (io), 62 D3 (io), 63 D4 (io), 66 CTL3 (out), 67 CTL4 (out), 69 CTL0/FLAGA   (out), 70 CTL1/FLAGB   (out), 71 CTL2/FLAGC   (out), 72 PC0/GPIFADR0   (io), 73 PC1/GPIFADR1   (io), 74 PC2/GPIFADR2   (io), 75 PC3/GPIFADR3   (io), 76 PC4/GPIFADR4   (io), 77 PC5/GPIFADR5   (io), 78 PC6/GPIFADR6   (io), 79 PC7/GPIFADR7   (io), 82 PA0/~{INT}0   (io), 83 PA1/~{INT1} (io), 84 PA2/SLOE/  (io), 85 PA3/WU2   (io), 86 D5 (io), 87 D6 (io), 88 D7 (io), 89 PA4/FIFOADR0   (io), 90 PA5/FIFOADR1   (io), 91 PA6/PKTEND   (io), 92 PA7/FLAGD/~{SLCS} (io), 94 A0 (out), 95 A1 (out), 96 A2 (out), 97 A3 (out), 98 CTL5 (out), 99 ~{RESET} (in), 101 WAKEUP (in), 102 PD0/FD[8]   (io), 103 PD1/FD[9]   (io), 104 PD2/FD[10]   (io), 105 PD3/FD[11]   (io), 106 ~{INT5} (in), 108 PE0/T0OUT   (io), 109 PE1/T1OUT   (io), 110 PE2/T2OUT   (io), 111 PE3/RXD0OUT   (io), 112 PE4/RXD1OUT   (io), 113 PE5/INT6   (io), 114 PE6/T2EX   (io), 115 PE7/GPIFADR8   (io), 117 A4 (out), 118 A5 (out), 119 A6 (out), 120 A7 (out), 121 PD4/FD[12]   (io), 122 PD5/FD[13]   (io), 123 PD6/FD[14]   (io), 124 PD7/FD[15]   (io), 126 A8 (out), 127 A9 (out), 128 A10 (out)
part B pins: 2 VCC (power), 3 GND (power), 10 AVCC (power), 13 AGND (power), 14 NC, 15 NC, 16 NC, 17 AVCC (power), 20 AGND (power), 26 VCC (power), 27 GND (power), 33 Reserved (power), 43 VCC (power), 48 VCC (power), 49 GND (power), 58 GND (power), 64 VCC (power), 65 GND (power), 68 VCC (power), 80 GND (power), 81 VCC (power), 93 GND (power), 100 VCC (power), 107 VCC (power), 116 GND (power), 125 GND (power)

## CY7C68014A-56BAXC
designator U?
EZ-USB FX2LP USB Microcontroller Ideal for Battery Powered Applications,16K RAM, 24 I/Os, 56-Pin VFBGA, Pb-Free, Commercial Grade; Published: 16-Dec-2005; LatestRevisionDate: 13-Apr-2006; LatestRevisionNote: IPC-7351 Footprint Added.; DatasheetVersion: rev.J, Sep-2005; PackageVersion: Sep-2005; PackageReference: BZ56; Publisher: Altium Limited; PackageDescription: 56-Ball VF Ball Grid Array 0.5 mm Pitch; Code_JEDEC: MO-195C; ComponentLink1Description: Manufacturer Link; ComponentLink1URL: http://www.cypress.com/portal/server.pt; ComponentLink2Description: Datasheet; ComponentLink2URL: http://www.cypress.com/portal/server.pt/gateway/PTARGS_0_2_1524_209_259_43/http%3B/sjapp20.mis.cypress.com%3B7001/publishedcontent/publish/design_resources/datasheets/contents/cy7c68014a_5.pdf
footprint BZ56 (BGA, 56-Leads, Body 5x5mm, Pitch 0.5mm)
pins: A1  RDY0/SLRD   (in), A2 PD7/FD[15]   (io) "Port D", A3 PD5/FD[13]   (io) "Port D", A4 GND (power), A5 VCC (power), A6 PD3/FD[11]   (io) "Port D", A7 PD1/FD[9]   (io) "Port D", A8 PD0/FD[8]   (io) "Port D", B1  RDY1/SLWR   (in), B2 CLKOUT (out), B3 PD4/FD[12]   (io) "Port D", B4 GND (power), B5 VCC (power), B6 PD2/FD[10]   (io) "Port D", B7 WAKEUP (in), B8 ~{RESET} (in), C1 XTALIN (in), C2 XTALOUT (out), C3 PD6/FD[14]   (io) "Port D", C4 GND (power), C5 VCC (power), C6 PA7/FLAGD/~{SLCS}   (io) "Port A", C7 PA6 orPKTEND   (io) "Port A", C8 PA5/FIFOADR1   (io) "Port A", D1 AVCC (power), D2 AVCC (power), D7 GND (power), D8 GND (power), E1 DMINUS (io), E2 DPLUS (io), E7 VCC (power), E8 VCC (power), F1 AGND (power), F2 AGND (power), F3 SCL (out), F4 PB1/FD[1]   (io) "Port B", F5 PB6/FD[6]   (io) "Port B", F6 PA4/FIFOADR0   (io) "Port A", F7 PA3/WU2   (io) "Port A", F8 PA2/SLOE (io) "Port A", G1 VCC (power), G2  IFCLK  (io), G3 SDA (out), G4 PB3/FD[3]   (io) "Port B", G5 PB5/FD[5]   (io) "Port B", G6 PA1/~{INT1}   (io) "Port A", G7 CTL1/FLAGB   (out), G8 PA0/~{INT0}   (io) "Port A", H1 GND (power), H2 RESERVED (in), H3 PB0/FD[0]   (io) "Port B", H4 PB2/FD[2]   (io) "Port B", H5 PB4/FD[4]   (io) "Port B", H6 PB7/FD[7]   (io) "Port B", H7 CTL0/FLAGA   (out), H8 CTL2/FLAGC   (out)

## CY7C68014A-56LFXC
designator U?
EZ-USB FX2LP USB Microcontroller Ideal for Battery Powered Applications,16K RAM, 24 I/Os, 56-Pin QFN, Pb-Free, Commercial Grade; Published: 16-Dec-2005; LatestRevisionDate: 13-Apr-2006; LatestRevisionNote: IPC-7351 Footprint Added.; DatasheetVersion: rev.J, Sep-2005; PackageVersion: May-2003; PackageReference: LF56A; Publisher: Altium Limited; PackageDescription: 56-Pin Punch Version Quad Flat No-Lead 0.5 mm Pitch; Code_JEDEC: MO-220; ComponentLink1Description: Manufacturer Link; ComponentLink1URL: http://www.cypress.com/portal/server.pt; ComponentLink2Description: Datasheet; ComponentLink2URL: http://www.cypress.com/portal/server.pt/gateway/PTARGS_0_2_1524_209_259_43/http%3B/sjapp20.mis.cypress.com%3B7001/publishedcontent/publish/design_resources/datasheets/contents/cy7c68014a_5.pdf
footprint LF56A_N (QFN, 56-Leads, Body 8x8mm, Pitch 0.5mm, IPC Medium Density)
footprint LF56A_L (QFN, 56-Leads, Body 8x8mm, Pitch 0.5mm, IPC High Density)
footprint LF56A_M (QFN, 56-Leads, Body 8x8mm, Pitch 0.5mm, IPC Low Density)
pins: 1  RDY0/SLRD   (in), 2  RDY1/SLWR   (in), 3 AVCC (power), 4 XTALOUT (out), 5 XTALIN (in), 6 AGND (power), 7 AVCC (power), 8 DPLUS (io), 9 DMINUS (io), 10 AGND (power), 11 VCC (power), 12 GND (power), 13  IFCLK (io), 14 RESERVED (in), 15 SCL (out), 16 SDA (out), 17 VCC (power), 18 PB0/FD[0]   (io) "Port B", 19 PB1/FD[1]   (io) "Port B", 20 PB2/FD[2]   (io) "Port B", 21 PB3/FD[3]   (io) "Port B", 22 PB4/FD[4]   (io) "Port B", 23 PB5/FD[5]   (io) "Port B", 24 PB6/FD[6]   (io) "Port B", 25 PB7/FD[7]   (io) "Port B", 26 GND (power), 27 VCC (power), 28 GND (power), 29 CTL0/FLAGA   (out), 30 CTL1/FLAGB   (out), 31 CTL2/FLAGC   (out), 32 VCC (power), 33 PA0/~{INT0} (io) "Port A", 34 PA1/~{INT1} (io) "Port A", 35 PA2/SLOE (io) "Port A", 36 PA3/WU2   (io) "Port A", 37 PA4/FIFOADR0   (io) "Port A", 38 PA5/FIFOADR1   (io) "Port A", 39 PA6 orPKTEND   (io) "Port A", 40 PA7/FLAGD/~{SLCS} (io) "Port A", 41 GND (power), 42 ~{RESET} (in), 43 VCC (power), 44 WAKEUP (in), 45 PD0/FD[8]   (io) "Port D", 46 PD1/FD[9]   (io) "Port D", 47 PD2/FD[10]   (io) "Port D", 48 PD3/FD[11]   (io) "Port D", 49 PD4/FD[12]   (io) "Port D", 50 PD5/FD[13]   (io) "Port D", 51 PD6/FD[14]   (io) "Port D", 52 PD7/FD[15]   (io) "Port D", 53 GND (power), 54 CLKOUT (out), 55 VCC (power), 56 GND (power), 57 Thermal Pad (power)

## CY7C68014A-56PVXC
designator U?
EZ-USB FX2LP USB Microcontroller Ideal for Battery Powered Applications,16K RAM, 24 I/Os, 56-Pin SSOP, Pb-Free, Commercial Grade; Published: 16-Dec-2005; DatasheetVersion: rev.J, Sep-2005; PackageVersion: Feb-2005; PackageReference: O56; Publisher: Altium Limited; PackageDescription: SSOP; 56 Leads; Body Width 7.5 mm; Pitch 0.635 mm; Code_JEDEC: MO-118-AB; Code_IPC: SSO56; ComponentLink1Description: Manufacturer Link; ComponentLink1URL: http://www.cypress.com/portal/server.pt; ComponentLink2Description: Datasheet; ComponentLink2URL: http://www.cypress.com/portal/server.pt/gateway/PTARGS_0_2_1524_209_259_43/http%3B/sjapp20.mis.cypress.com%3B7001/publishedcontent/publish/design_resources/datasheets/contents/cy7c68014a_5.pdf
footprint O56 (SSOP; 56 Leads; Body Width 7.5 mm; Pitch 0.635 mm)
pins: 1 PD5/FD[13]   (io) "Port D", 2 PD6/FD[14]   (io) "Port D", 3 PD7/FD[15]   (io) "Port D", 4 GND (power), 5 CLKOUT (out), 6 VCC (power), 7 GND (power), 8  RDY0/SLRD   (in), 9  RDY1/SLWR   (in), 10 AVCC (power), 11 XTALOUT (out), 12 XTALIN (in), 13 AGND (power), 14 AVCC (power), 15 DPLUS (io), 16 DMINUS (io), 17 AGND (power), 18 VCC (power), 19 GND (power), 20  IFCLK (io), 21 RESERVED (in), 22 SCL (out), 23 SDA (out), 24 VCC (power), 25 PB0/FD[0]   (io) "Port B", 26 PB1/FD[1]   (io) "Port B", 27 PB2/FD[2]   (io) "Port B", 28 PB3/FD[3]   (io) "Port B", 29 PB4/FD[4]   (io) "Port B", 30 PB5/FD[5]   (io) "Port B", 31 PB6/FD[6]   (io) "Port B", 32 PB7/FD[7]   (io) "Port B", 33 GND (power), 34 VCC (power), 35 GND (power), 36 CTL0/FLAGA   (out), 37 CTL1/FLAGB   (out), 38 CTL2/FLAGC   (out), 39 VCC (power), 40 PA0/~{INT0} (io) "Port A", 41 PA1/~{INT1} (io) "Port A", 42 PA2/SLOE (io) "Port A", 43 PA3/WU2   (io) "Port A", 44 PA4/FIFOADR0   (io) "Port A", 45 PA5/FIFOADR1   (io) "Port A", 46 PA6 orPKTEND   (io) "Port A", 47 PA7/FLAGD/~{SLCS} (io) "Port A", 48 GND (power), 49 ~{RESET} (in), 50 VCC (power), 51 WAKEUP (in), 52 PD0/FD[8]   (io) "Port D", 53 PD1/FD[9]   (io) "Port D", 54 PD2/FD[10]   (io) "Port D", 55 PD3/FD[11]   (io) "Port D", 56 PD4/FD[12]   (io) "Port D"

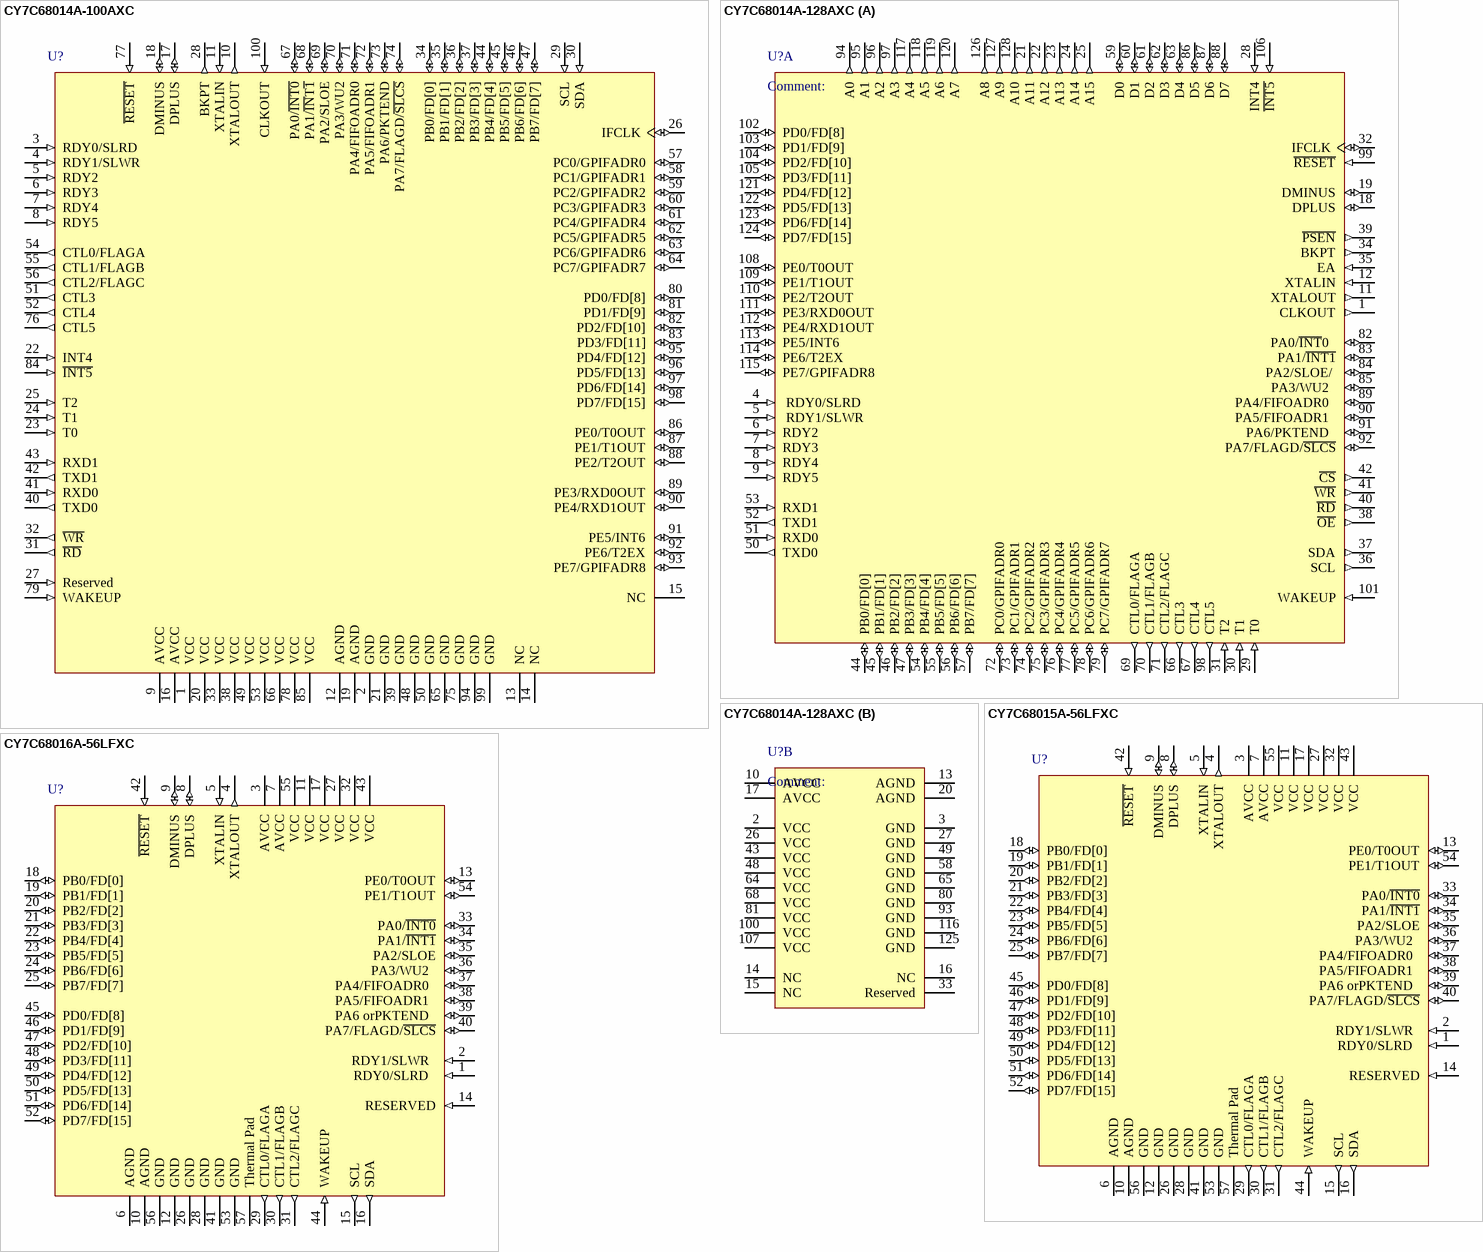
[diagram p3: symbols CY7C68014A-100AXC to CY7C68016A-56LFXC]

## CY7C68014A-100AXC
designator U?
EZ-USB FX2LP USB Microcontroller Ideal for Battery Powered Applications,16K RAM, 40 I/Os, 100-Pin TQFP, Pb-Free, Commercial Grade; Published: 16-Dec-2005; LatestRevisionDate: 13-Apr-2006; LatestRevisionNote: IPC-7351 Footprint Added.; DatasheetVersion: rev.J, Sep-2005; PackageVersion: Feb-2005; PackageReference: A101; Publisher: Altium Limited; PackageDescription: 100-Pin Thin Plastic Quad Flat Pack Rectangular 0.65 mm Pitch; ComponentLink1Description: Manufacturer Link; ComponentLink1URL: http://www.cypress.com/portal/server.pt; ComponentLink2Description: Datasheet; ComponentLink2URL: http://www.cypress.com/portal/server.pt/gateway/PTARGS_0_2_1524_209_259_43/http%3B/sjapp20.mis.cypress.com%3B7001/publishedcontent/publish/design_resources/datasheets/contents/cy7c68014a_5.pdf
footprint A101_N (Thin QFP, 100-Leads, Body 20x14mm, Pitch 0.65mm, IPC Medium Density)
footprint A101_L (Thin QFP, 100-Leads, Body 20x14mm, Pitch 0.65mm, IPC High Density)
footprint A101_M (Thin QFP, 100-Leads, Body 20x14mm, Pitch 0.65mm, IPC Low Density)
pins: 1 VCC (power), 2 GND (power), 3 RDY0/SLRD (in), 4 RDY1/SLWR (in), 5 RDY2 (in), 6 RDY3 (in), 7 RDY4 (in), 8 RDY5 (in), 9 AVCC (power), 10 XTALOUT (out), 11 XTALIN (in), 12 AGND (power), 13 NC, 14 NC, 15 NC, 16 AVCC (power), 17 DPLUS (io), 18 DMINUS (io), 19 AGND (power), 20 VCC (power), 21 GND (power), 22 INT4 (in), 23 T0 (in), 24 T1 (in), 25 T2 (in), 26 IFCLK (io), 27 Reserved (in), 28 BKPT (out), 29 SCL (in), 30 SDA (in), 31 ~{RD} (out), 32 ~{WR} (out), 33 VCC (power), 34 PB0/FD[0] (io) "Port B", 35 PB1/FD[1] (io) "Port B", 36 PB2/FD[2] (io) "Port B", 37 PB3/FD[3] (io) "Port B", 38 VCC (power), 39 GND (power), 40 TXD0 (out), 41 RXD0 (in), 42 TXD1 (out), 43 RXD1 (in), 44 PB4/FD[4] (io) "Port B", 45 PB5/FD[5] (io) "Port B", 46 PB6/FD[6] (io) "Port B", 47 PB7/FD[7] (io) "Port B", 48 GND (power), 49 VCC (power), 50 GND (power), 51 CTL3 (out), 52 CTL4 (out), 53 VCC (power), 54 CTL0/FLAGA (out), 55 CTL1/FLAGB (out), 56 CTL2/FLAGC (out), 57 PC0/GPIFADR0 (io) "Port C", 58 PC1/GPIFADR1 (io) "Port C", 59 PC2/GPIFADR2 (io) "Port C", 60 PC3/GPIFADR3 (io) "Port C", 61 PC4/GPIFADR4 (io) "Port C", 62 PC5/GPIFADR5 (io) "Port C", 63 PC6/GPIFADR6 (io) "Port C", 64 PC7/GPIFADR7 (io) "Port C", 65 GND (power), 66 VCC (power), 67 PA0/~{INT0} (io) "Port A", 68 PA1/~{IN}T~{1} (io) "Port A", 69 PA2/SLOE (io) "Port A", 70 PA3/WU2 (io) "Port A", 71 PA4/FIFOADR0 (io) "Port A", 72 PA5/FIFOADR1 (io) "Port A", 73 PA6/PKTEND (io) "Port A", 74 PA7/FLAGD/~{SLCS} (io) "Port A", 75 GND (power), 76 CTL5 (out), 77 ~{RESET} (in), 78 VCC (power), 79 WAKEUP (in), 80 PD0/FD[8] (io) "Port D", 81 PD1/FD[9] (io) "Port D", 82 PD2/FD[10] (io) "Port D", 83 PD3/FD[11] (io) "Port D", 84 ~{INT5} (in), 85 VCC (power), 86 PE0/T0OUT (io) "Port E", 87 PE1/T1OUT (io) "Port E", 88 PE2/T2OUT (io) "Port E", 89 PE3/RXD0OUT (io) "Port E", 90 PE4/RXD1OUT (io) "Port E", 91 PE5/INT6 (io) "Port E", 92 PE6/T2EX (io) "Port E", 93 PE7/GPIFADR8 (io) "Port E", 94 GND (power), 95 PD4/FD[12] (io) "Port D", 96 PD5/FD[13] (io) "Port D", 97 PD6/FD[14] (io) "Port D", 98 PD7/FD[15] (io) "Port D", 99 GND (power), 100 CLKOUT (in)